# Altium schematic symbol library condensator.SchLib: 1 symbol
Pins are listed as number, name and electrical type; pins without a type are passive.

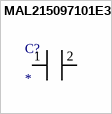
[diagram p0: symbol MAL215097101E3]

## MAL215097101E3
designator C?
Capacitor Polarised; Manufacturer_Name: Vishay; Manufacturer_Part_Number: MAL215097101E3; Datasheet Link: https://componentsearchengine.com/Datasheets/2/MAL215097101E3.pdf; Height: 10.5mm
footprint FP-CRCW0805-e3-IPC_A
pins: 1 +, 2 -